# Altium footprint library M20-6103245.PcbLib: 1 footprints
Each footprint in its own frame and in the unit in brackets; x right, y up, seen from the top. Pads: shape width x height; smd on the part's side, far side on the other; paste and mask are expansions set on the pad; w line width, h text height; cw(c..) or ccw(c..) is an arc to the next point about the centre after c.
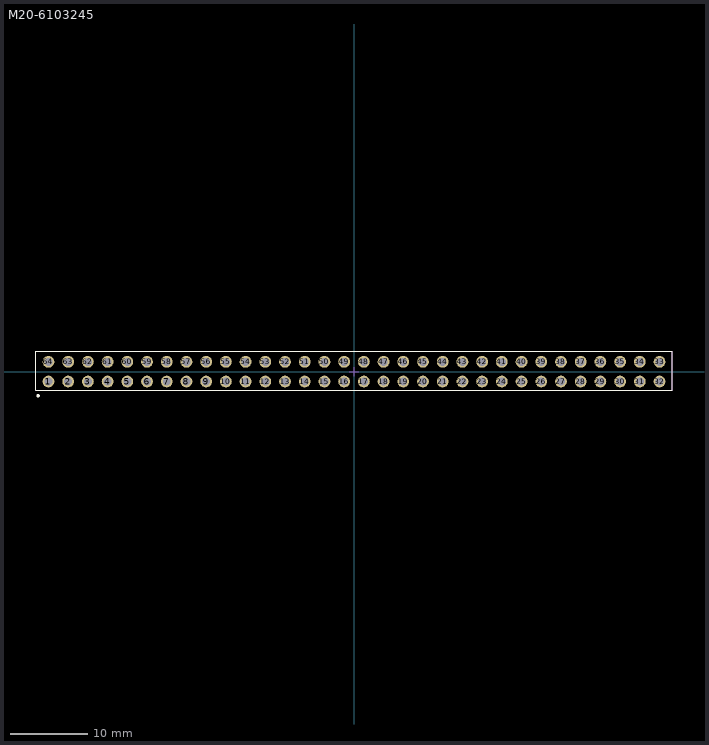
[diagram p0: the footprint, top view; thin cyan lines are the x and y axes]

## M20-6103245 [mm]
height 23.24
pads (64):
  round 1.52 hole 1.02 mask+0: 1(-39.37,-1.27) 2(-36.83,-1.27) 3(-34.29,-1.27) 4(-31.75,-1.27) 5(-29.21,-1.27) 6(-26.67,-1.27) 7(-24.13,-1.27) 8(-21.59,-1.27) 9(-19.05,-1.27) 10(-16.51,-1.27) 11(-13.97,-1.27) 12(-11.43,-1.27) 13(-8.89,-1.27) 14(-6.35,-1.27) 15(-3.81,-1.27) 16(-1.27,-1.27) 17(1.27,-1.27) 18(3.81,-1.27) 19(6.35,-1.27) 20(8.89,-1.27) 21(11.43,-1.27) 22(13.97,-1.27) 23(16.51,-1.27) 24(19.05,-1.27) 25(21.59,-1.27) 26(24.13,-1.27) 27(26.67,-1.27) 28(29.21,-1.27) 29(31.75,-1.27) 30(34.29,-1.27) 31(36.83,-1.27) 32(39.37,-1.27) 33(39.37,1.27) 34(36.83,1.27) 35(34.29,1.27) 36(31.75,1.27) 37(29.21,1.27) 38(26.67,1.27) 39(24.13,1.27) 40(21.59,1.27) 41(19.05,1.27) 42(16.51,1.27) 43(13.97,1.27) 44(11.43,1.27) 45(8.89,1.27) 46(6.35,1.27) 47(3.81,1.27) 48(1.27,1.27) 49(-1.27,1.27) 50(-3.81,1.27) 51(-6.35,1.27) 52(-8.89,1.27) 53(-11.43,1.27) 54(-13.97,1.27) 55(-16.51,1.27) 56(-19.05,1.27) 57(-21.59,1.27) 58(-24.13,1.27) 59(-26.67,1.27) 60(-29.21,1.27) 61(-31.75,1.27) 62(-34.29,1.27) 63(-36.83,1.27) 64(-39.37,1.27)
Top Overlay:
  circle w0.254: c-40.7,-3.1 r0.1
  lines w0.127: -41,-2.4 41,-2.4 41,2.6 -41,2.6 -41,-2.4
Mechanical 13:
  lines w0.127: -41,-2.4 -41,2.6 41,2.6 41,-2.4 -41,-2.4
Mechanical 15:
  lines w0.127: -0.6,0 0,0 ; 0,-0.6 0,0 ; 0,0.6 0,0 ; 0.6,0 0,0
3D body "m20-6103245_asm.stp": height 11.05, standoff -12.37, extent -40.97,-2.46 40.97,2.54